# EAGLE library part DSPIC30F2023-30I/ML (library Microchip_By_element14_Batch_1)
Digital Signal Controllers
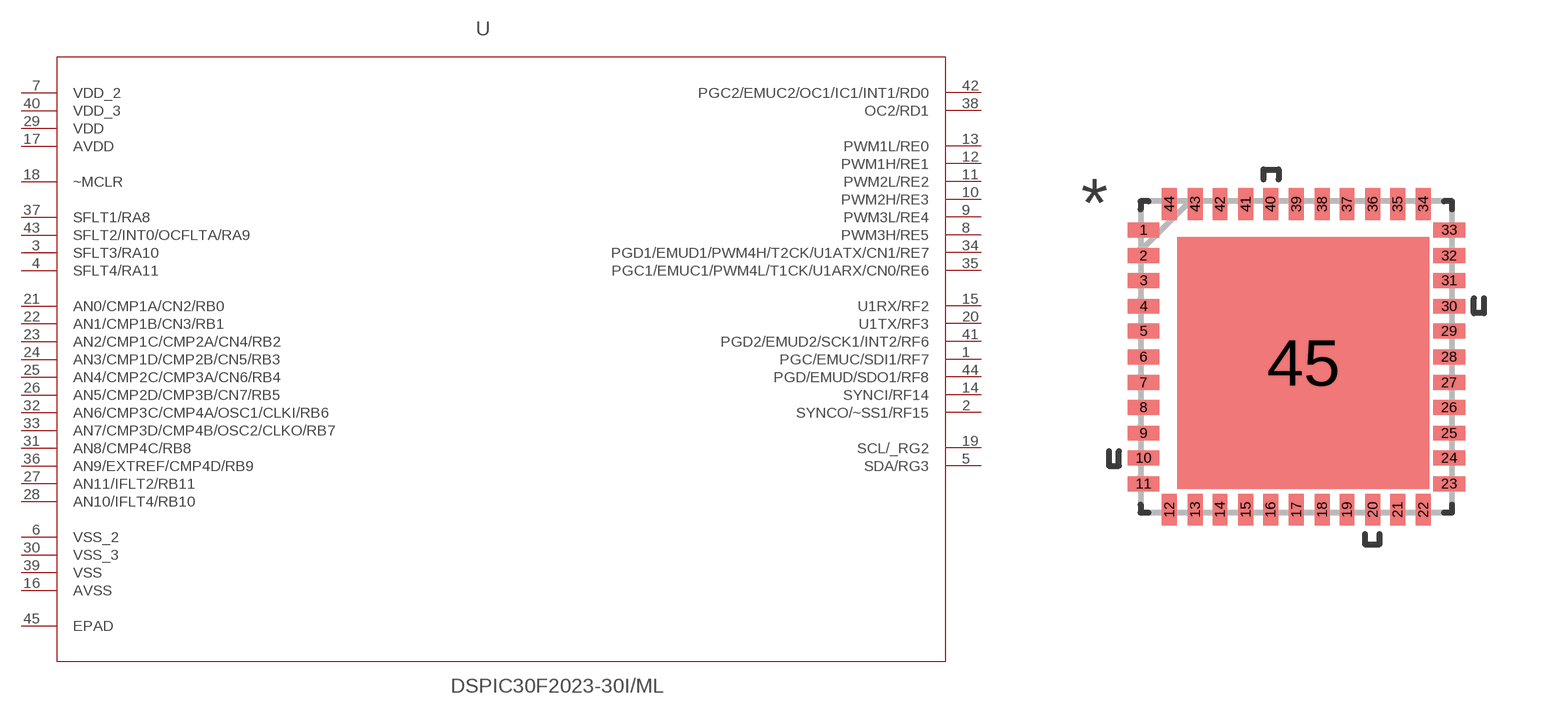
[diagram p285: symbol with the pads of QFN65P800X800X100-44N; footprint QFN65P800X800X100-44N]

Designator prefix -

## DSPIC30F2023-30I/ML (MPN: DSPIC30F2023-30I/ML; OC_FARNELL: 1297282; OC_NEWARK: 24M1534; PACKAGE: QFN-44; SUPPLIER: Microchip)  [QFN65P800X800X100-44N]
1  PGC/EMUC/SDI1/RF7
2  SYNCO/~SS1/RF15
3  SFLT3/RA10
4  SFLT4/RA11
5  SDA/RG3
6  VSS_2  pwr
7  VDD_2  pwr
8  PWM3H/RE5
9  PWM3L/RE4
10  PWM2H/RE3
11  PWM2L/RE2
12  PWM1H/RE1
13  PWM1L/RE0
14  SYNCI/RF14
15  U1RX/RF2
16  AVSS  pwr
17  AVDD  pwr
18  ~MCLR  in
19  SCL/_RG2
20  U1TX/RF3
21  AN0/CMP1A/CN2/RB0
22  AN1/CMP1B/CN3/RB1
23  AN2/CMP1C/CMP2A/CN4/RB2
24  AN3/CMP1D/CMP2B/CN5/RB3
25  AN4/CMP2C/CMP3A/CN6/RB4
26  AN5/CMP2D/CMP3B/CN7/RB5
27  AN11/IFLT2/RB11
28  AN10/IFLT4/RB10
29  VDD  pwr
30  VSS_3  pwr
31  AN8/CMP4C/RB8
32  AN6/CMP3C/CMP4A/OSC1/CLKI/RB6
33  AN7/CMP3D/CMP4B/OSC2/CLKO/RB7
34  PGD1/EMUD1/PWM4H/T2CK/U1ATX/CN1/RE7
35  PGC1/EMUC1/PWM4L/T1CK/U1ARX/CN0/RE6
36  AN9/EXTREF/CMP4D/RB9
37  SFLT1/RA8
38  OC2/RD1
39  VSS  pwr
40  VDD_3  pwr
41  PGD2/EMUD2/SCK1/INT2/RF6
42  PGC2/EMUC2/OC1/IC1/INT1/RD0
43  SFLT2/INT0/OCFLTA/RA9
44  PGD/EMUD/SDO1/RF8
45  EPAD  pas

## Footprint QFN65P800X800X100-44N (pad centres in mm)
smd 0.813 x 0.381: 1 -3.912,3.251; 2 -3.912,2.591; 3 -3.912,1.956; 4 -3.912,1.295; 5 -3.912,0.66; 6 -3.912,0; 7 -3.912,-0.66; 8 -3.912,-1.295; 9 -3.912,-1.956; 10 -3.912,-2.591; 11 -3.912,-3.251; 23 3.912,-3.251; 24 3.912,-2.591; 25 3.912,-1.956; 26 3.912,-1.295; 27 3.912,-0.66; 28 3.912,0; 29 3.912,0.66; 30 3.912,1.295; 31 3.912,1.956; 32 3.912,2.591; 33 3.912,3.251
smd 0.381 x 0.813: 12 -3.251,-3.912; 13 -2.591,-3.912; 14 -1.956,-3.912; 15 -1.295,-3.912; 16 -0.66,-3.912; 17 0,-3.912; 18 0.66,-3.912; 19 1.295,-3.912; 20 1.956,-3.912; 21 2.591,-3.912; 22 3.251,-3.912; 34 3.251,3.912; 35 2.591,3.912; 36 1.956,3.912; 37 1.295,3.912; 38 0.66,3.912; 39 0,3.912; 40 -0.66,3.912; 41 -1.295,3.912; 42 -1.956,3.912; 43 -2.591,3.912; 44 -3.251,3.912
smd 6.452 x 6.452: 45 0.178,-0.152